# Altium schematic symbol library SCH - CONNECTORS - SAMTEC -TSW-103-07-F-S.SchLib: 1 symbol
Pins are listed as number, name and electrical type; pins without a type are passive.

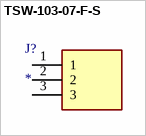
[diagram p0: symbol TSW-103-07-F-S]

## TSW-103-07-F-S
designator J?
Connector; Manufacturer_Name: SAMTEC; Manufacturer_Part_Number: TSW-103-07-F-S; Description: 3 Position; Datasheet Link: http://suddendocs.samtec.com/prints/tsw-xxx-xx-xxx-x-xx-xxx-mkt.pdf; Mouser Part Number: 200-TSW10307FS; Mouser Price/Stock: https://www.mouser.co.uk/ProductDetail/Samtec/TSW-103-07-F-S?qs=rU5fayqh%252BE3ejKVHu4LRAQ%3D%3D; Arrow Part Number: TSW-103-07-F-S; Arrow Price/Stock: https://www.arrow.com/en/products/tsw-103-07-f-s/samtec?utm_currency=USD&region=nac
footprint TSW-103-XX-YY-S
pins: 1, 2, 3